# EAGLE library part NCP3418 (library IC)
ON Semiconductor NCP3418 Dueal bootstrapped 12V MOSFET Driver
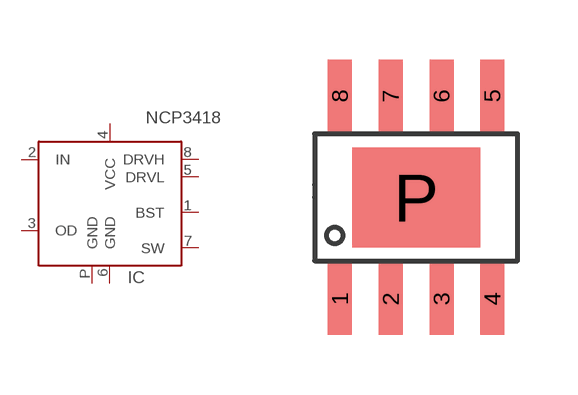
[diagram p113: symbol with the pads of SOIC8-EP; footprint SOIC8-EP]

Designator prefix IC

## NCP3418-PD  [SOIC8-EP]
1  BST
2  IN
3  OD
4  VCC  pwr
5  DRVL
6  GND  pwr
7  SW
8  DRVH
P  GND  pwr

## Footprint SOIC8-EP (pad centres in mm)
SOIC8-EP (pad) package (ON semi)
smd 0.6 x 1.8: 1 -1.905,-2.54; 2 -0.635,-2.54; 3 0.635,-2.54; 4 1.905,-2.54; 5 1.905,2.54; 6 0.635,2.54; 7 -0.635,2.54; 8 -1.905,2.54
smd 3.2 x 2.5: P 0,0